# Altium footprint library HV5RGB25.PcbLib: 1 footprints
Each footprint in its own frame and in the unit in brackets; x right, y up, seen from the top. Pads: shape width x height; smd on the part's side, far side on the other; paste and mask are expansions set on the pad; w line width, h text height; cw(c..) or ccw(c..) is an arc to the next point about the centre after c.
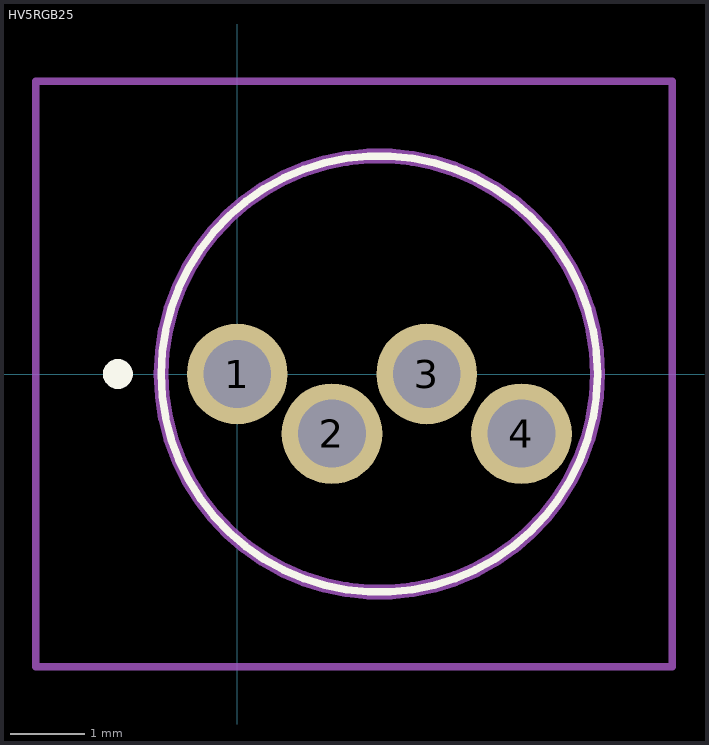
[diagram p0: the footprint, top view; thin cyan lines are the x and y axes]

## HV5RGB25 [mm]
pads (4):
  round 1.35 hole 0.91: 1(0,0) 2(1.27,-0.8) 3(2.54,0) 4(3.81,-0.8)
Top Overlay:
  lines w0.1: -1.02,0 -1.02,0 ; -1.02,0 cw(c1.905,0) 4.83,0 ; -1.02,0 ccw(c1.905,0) 4.83,0 ; 4.83,0 4.83,0
  lines w0.2: -1.6,-0.1 ccw(c-1.6,0) -1.6,0.1 ; -1.6,-0.1 -1.6,-0.1 ; -1.6,-0.1 cw(c-1.6,0) -1.6,0.1 ; -1.6,0.1 -1.6,0.1
Mechanical 15:
  lines w0.2: -1.02,0 -1.02,0 ; -1.02,0 cw(c1.905,0) 4.83,0 ; -1.02,0 ccw(c1.905,0) 4.83,0 ; 4.83,0 4.83,0
Mechanical 20:
  lines w0.1: -2.7,-3.925 5.83,-3.925 5.83,3.925 -2.7,3.925 -2.7,-3.925
3D body "HV-5RGB60.stp": height 5.8, standoff -4.65, extent -10,-3.376 10,3.376